# Altium integrated library Xtal.IntLib: 16 symbols
Pins are listed as number, name and electrical type; pins without a type are passive.

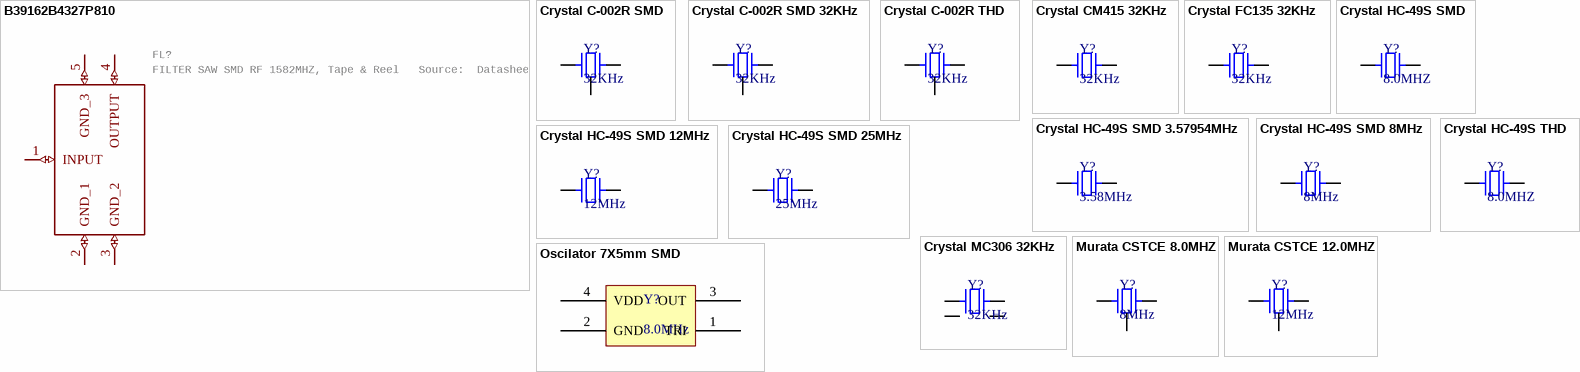
[diagram p0: symbols B39162B4327P810 to Oscilator 7X5mm SMD]

## B39162B4327P810
designator FL?, comment FILTER SAW SMD RF 1582MHZ, Tape & Reel   Source:  Datasheet
PartNumber: B39162B4327P810; Manufacturer_Name: TDK; GateName_1: G$1; LibraryName: B39162B4327P810; DeviceSetName: B39162B4327P810; Package: B39921B4344P810; Manufacturer_Part_Number: B39162B4327P810; Mouser_Part_Number: N/A; Mouser_Price-Stock: https://www.mouser.co.uk/ProductDetail/TDK/B39162B4327P810/?qs=hUXy7GzqLWzEDXeMvC1aGg%3D%3D; Height: mm
footprint B39921B4344P810
pins: 1 INPUT (io), 2 GND_1 (io), 3 GND_2 (io), 4 OUTPUT (io), 5 GND_3 (io)

## Crystal C-002R SMD
designator Y?, comment 32KHz
SMT Crystal; VALUE: 32KHz
footprint C-002R SMD (6mm Crystal)
pins: 1, 2, 3 GND

## Crystal C-002R SMD 32KHz
designator Y?, comment 32KHz
SMT Crystal; PartNumber: ECS-.327-12.5-13FLX-C; VALUE: 32KHz
footprint C-002R SMD (6mm Crystal)
pins: 1, 2, 3 GND

## Crystal C-002R THD
designator Y?, comment 32KHz
SMT Crystal; VALUE: 32KHz
footprint C-002R TH (6mm Crystal)
pins: 1, 2, 3 GND

## Crystal CM415 32KHz
designator Y?, comment 32KHz
SMT Crystal; PartNumber: CM41532768DZYT
footprint CM41532768KDZFUT
pins: 1, 2

## Crystal FC135 32KHz
designator Y?, comment 32KHz
SMT Crystal; PartNumber: FC-135 32.7680KA-A5
footprint FC-135
pins: 1, 2

## Crystal HC-49S SMD
designator Y?, comment 8.0MHZ
SMT Crystal; VALUE: 8.0MHZ
footprint HC-49S SMD (SMD crystal resonator, ABL, ABLS, HC-49, HC49 11X4.5MM)
pins: 1, 2

## Crystal HC-49S SMD 3.57954MHz
designator Y?, comment 3.58MHz
SMT Crystal; PartNumber: ABLS-3.57954MHZ-K4T
footprint HC-49S SMD (SMD crystal resonator, ABL, ABLS, HC-49, HC49 11X4.5MM)
pins: 1, 2

## Crystal HC-49S SMD 8MHz
designator Y?, comment 8MHz
SMT Crystal; PartNumber: ABLS-8.000MHZ-K4T
footprint HC-49S SMD (SMD crystal resonator, ABL, ABLS, HC-49, HC49 11X4.5MM)
pins: 1, 2

## Crystal HC-49S SMD 12MHz
designator Y?, comment 12MHz
SMT Crystal; PartNumber: ABLS-12.000MHZ-B2-T
footprint HC-49S SMD (SMD crystal resonator, ABL, ABLS, HC-49, HC49 11X4.5MM)
pins: 1, 2

## Crystal HC-49S SMD 25MHz
designator Y?, comment 25MHz
SMT Crystal; PartNumber: ABLS-25.000MHZ-B2F-T
footprint HC-49S SMD (SMD crystal resonator, ABL, ABLS, HC-49, HC49 11X4.5MM)
pins: 1, 2

## Crystal HC-49S THD
designator Y?, comment 8.0MHZ
THT Crystal; VALUE: 8.0MHZ
footprint HC-49S THT (Crystal THT HC49S)
pins: 1, 2

## Crystal MC306 32KHz
designator Y?, comment 32KHz
SMT Crystal; PartNumber: MC-306-32-7680K
footprint 8X4 E571
pins: 1, 2, 3, 4

## Murata CSTCE 8.0MHZ
designator Y?, comment 8MHz
SMT Resonator; PartNumber: CSTCE8M00GH5L99-R0
footprint MURATA CSTCE (Murata CSTCE series resonator)
pins: 1, 2, 3

## Murata CSTCE 12.0MHZ
designator Y?, comment 12MHz
SMT Resonator; PartNumber: CSTCE12M0GH5L99-R0
footprint MURATA CSTCE (Murata CSTCE series resonator)
pins: 1, 2, 3

## Oscilator 7X5mm SMD
designator Y?, comment 8.0MHz
SMD CMOS Crystal Oscillator; VALUE: 8.0MHz
footprint OSC 7050 (DFN-4, 7x5mm)
pins: 1 TRI, 2 GND, 3 OUT, 4 VDD